# EAGLE library part FEATHER-WICED (library Adafruit_Modules)
Adafruit Feather WICED (Cypress WICED w/ STM32F205 ARM Cortex M3 processor @ 120MHz) Warning - Untested: Verify all connections!
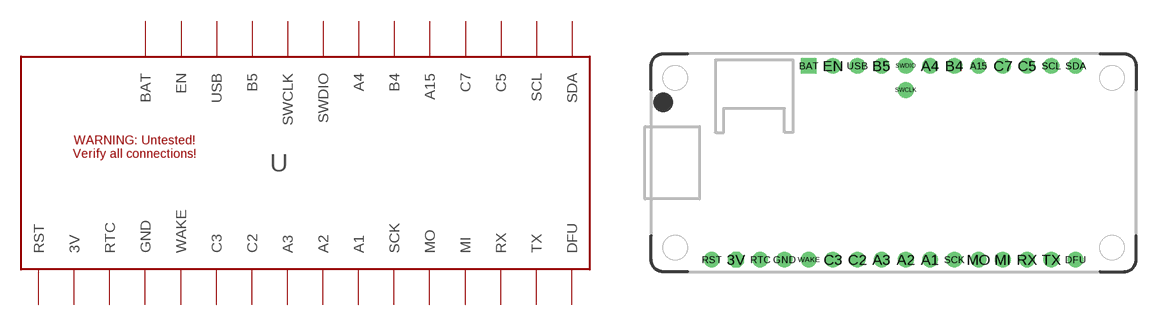
[diagram p18: symbol with the pads of FEATHER-WICED; footprint FEATHER-WICED]

Designator prefix -

## FEATHER-WICED (ADAFRUIT: 3056)  [FEATHER-WICED]
3V  3V  out
A1  A1
A2  A2
A3  A3
A4  A4
A15  A15
B4  B4
B5  B5
BAT  BAT  pwr
C2  C2
C3  C3
C5  C5
C7  C7
DFU  DFU
EN  EN  pas
GND  GND  pwr
MI  MI
MO  MO
RST  RST  pas
RTC  RTC  in
RX  RX
SCK  SCK
SCL  SCL
SDA  SDA
SWCLK  SWCLK
SWDIO  SWDIO
TX  TX
USB  USB  out
WAKE  WAKE

## Footprint FEATHER-WICED (pad centres in mm)
Adafruit Feather WICED (WARNING - UNTESTED: Verify all connections)
drill 1.1 octagon: 3V -16.51,-10.16
drill 1.1: A1 3.81,-10.16; A2 1.27,-10.16; A3 -1.27,-10.16; A4 3.81,10.16; A15 8.89,10.16; B4 6.35,10.16; B5 -1.27,10.16; C2 -3.81,-10.16; C3 -6.35,-10.16; C5 13.97,10.16; C7 11.43,10.16; DFU 19.05,-10.16; EN -6.35,10.16; GND -11.43,-10.16; MI 11.43,-10.16; MO 8.89,-10.16; RST -19.05,-10.16; RTC -13.97,-10.16; RX 13.97,-10.16; SCK 6.35,-10.16; SCL 16.51,10.16; SDA 19.05,10.16; SWCLK 1.27,7.62; SWDIO 1.27,10.16; TX 16.51,-10.16; USB -3.81,10.16; WAKE -8.89,-10.16
drill 1.1 square: BAT -8.89,10.16